# Altium schematic symbol library dds.SchLib: 2 symbols
Pins are listed as number, name and electrical type; pins without a type are passive.

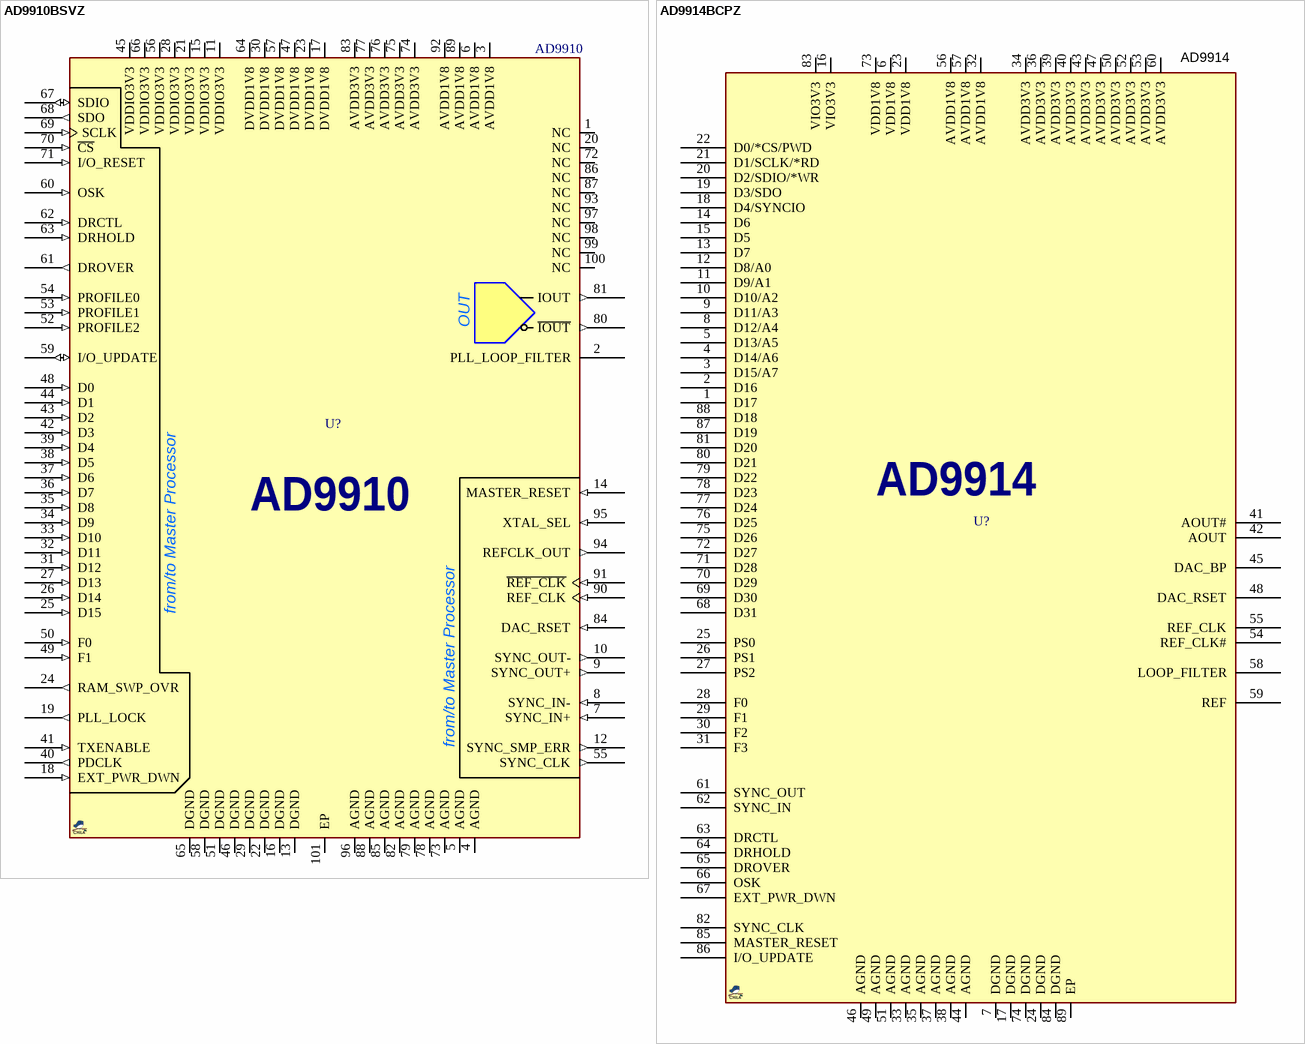
[diagram p0: symbols AD9910BSVZ to AD9914BCPZ]

## AD9910BSVZ
designator U?, comment AD9910
DDS, 1GSPS, 14-Bit, 3.3VCMOS, 32Bit_Parallel/Serial; MANF_P#: AD9910BSVZ; MANF: Analog Devices; PARAM: 1GSPS, 14-Bit, 3.3VCMOS, 32Bit_Parallel/Serial; VALUE: AD9910
footprint QFG50_100T (LQFP100P, 14.0x14.0mm, Pitch 0.5mm)
pins: 1 NC "Not Connected. Allow device pins to float.", 2 PLL_LOOP_FILTER "PLL Loop Filter Compensation Pin. See the External PLL Loop Filter Components section for details", 3 AVDD1V8 (power) "Analog Core VDD, 1.8 V Analog Supplies.", 4 AGND (power) "Analog Ground.", 5 AGND (power) "Analog Ground.", 6 AVDD1V8 (power) "Analog Core VDD, 1.8 V Analog Supplies.", 7 SYNC_IN+ (in) "Synchronization Signal (LVDS), Digital Input (Rising Edge Active). The synchronization signal from the external master to synchronize internal subclocks. [see datasheet]", 8 SYNC_IN- (in) "Synchronization Signal (LVDS), Digital Input. The synchronization signal from the external master to synchronize internal subclocks. [see datasheet]", 9 SYNC_OUT+ (out) "Synchronization Signal (LVDS), Digital Output (Rising Edge Active). The synchronization signal from the internal device subclocks to synchronize external slave devices. [see datasheet]", 10 SYNC_OUT- (out) "Synchronization Signal (LVDS), Digital Output. The synchronization signal from the internal device subclocks to synchronize external slave devices. [see datasheet]", 11 VDDIO3V3 (power) "Digital Input/Output VDD, 3.3 V Digital Supplies.", 12 SYNC_SMP_ERR (out) "Synchronization Sample Error, Digital Output (Active High). Sync sample error: a high on this pin indicates that the AD9910 did not receive a valid sync signal on SYNC_IN+/SYNC_IN-.", 13 DGND (power) "Digital Ground.", 14 MASTER_RESET (in) "Master Reset, Digital Input (Active High). Master reset: clears all memory elements and sets registers to default values.", 15 VDDIO3V3 (power) "Digital Input/Output VDD, 3.3 V Digital Supplies.", 16 DGND (power) "Digital Ground.", 17 DVDD1V8 (power) "Digital Core VDD, 1.8 V Digital Supplies.", 18 EXT_PWR_DWN (in) "External Power-Down, Digital Input (Active High). A high level on this pin initiates the currently programmed power-down mode. See the Power-Down Control section for further details. [see datasheet]", 19 PLL_LOCK (out) "Clock Multiplier PLL Lock, Digital Output (Active High). A high on this pin indicates that the Clock Multiplier PLL has acquired lock to the reference clock input.", 20 NC "Not Connected. Allow device pins to float.", 21 VDDIO3V3 (power) "Digital Input/Output VDD, 3.3 V Digital Supplies.", 22 DGND (power) "Digital Ground.", 23 DVDD1V8 (power) "Digital Core VDD, 1.8 V Digital Supplies.", 24 RAM_SWP_OVR (out) "RAM Sweep Over, Digital Output (Active High). A high on this pin indicates that the RAM sweep profile has completed.", 25 D15 (in) "Parallel Input Bus (Active High).", 26 D14 (in) "Parallel Input Bus (Active High).", 27 D13 (in) "Parallel Input Bus (Active High).", 28 VDDIO3V3 (power) "Digital Input/Output VDD, 3.3 V Digital Supplies.", 29 DGND (power) "Digital Ground.", 30 DVDD1V8 (power) "Digital Core VDD, 1.8 V Digital Supplies.", 31 D12 (in) "Parallel Input Bus (Active High).", 32 D11 (in) "Parallel Input Bus (Active High).", 33 D10 (in) "Parallel Input Bus (Active High).", 34 D9 (in) "Parallel Input Bus (Active High).", 35 D8 (in) "Parallel Input Bus (Active High).", 36 D7 (in) "Parallel Input Bus (Active High).", 37 D6 (in) "Parallel Input Bus (Active High).", 38 D5 (in) "Parallel Input Bus (Active High).", 39 D4 (in) "Parallel Input Bus (Active High).", 40 PDCLK (out) "Parallel Data Clock. This is the digital output (clock). The parallel data clock provides a timing signal for aligning data at the parallel inputs.", 41 TXENABLE (in) "Transmit Enable. Digital input (active high). In burst mode communications, a high on this pin indicates new data for transmission. In continuous mode, this pin remains high.", 42 D3 (in) "Parallel Input Bus (Active High).", 43 D2 (in) "Parallel Input Bus (Active High).", 44 D1 (in) "Parallel Input Bus (Active High).", 45 VDDIO3V3 (power) "Digital Input/Output VDD, 3.3 V Digital Supplies.", 46 DGND (power) "Digital Ground.", 47 DVDD1V8 (power) "Digital Core VDD, 1.8 V Digital Supplies.", 48 D0 (in) "Parallel Input Bus (Active High).", 49 F1 (in) "Modulation Format Pin. Digital input to determine the modulation format.", 50 F0 (in) "Modulation Format Pin. Digital input to determine the modulation format.", 51 DGND (power) "Digital Ground.", 52 PROFILE2 (in) "Profile Select Pins. Digital inputs (active high). Use these pins to select one of eight phase/frequency profiles for the DDS. Changing the state of one of these pins transfers the current contents of all I/O buffers to the corresponding registers. [see d", 53 PROFILE1 (in) "Profile Select Pins. Digital inputs (active high). Use these pins to select one of eight phase/frequency profiles for the DDS. Changing the state of one of these pins transfers the current contents of all I/O buffers to the corresponding registers. [see d", 54 PROFILE0 (in) "Profile Select Pins. Digital inputs (active high). Use these pins to select one of eight phase/frequency profiles for the DDS. Changing the state of one of these pins transfers the current contents of all I/O buffers to the corresponding registers. [see d", 55 SYNC_CLK (out) "Output Clock Divided-By-Four. A digital output (clock). Many of the digital inputs on the chip, such as I/O_UPDATE and PROFILE[2:0], need to be set up on the rising edge of this signal.", 56 VDDIO3V3 (power) "Digital Input/Output VDD, 3.3 V Digital Supplies.", 57 DVDD1V8 (power) "Digital Core VDD, 1.8 V Digital Supplies.", 58 DGND (power) "Digital Ground.", 59 I/O_UPDATE (io) "Input/Output Update. Digital input (active high). A high on this pin transfers the contents of the I/O buffers to the corresponding internal registers.", 60 OSK (in) "Output Shift Keying. Digital input (active high). When the OSK features are placed in either manual or automatic mode, this pin controls the OSK function. [see datasheet]", 61 DROVER (out) "Digital Ramp Over. Digital output (active high). This pin switches to Logic 1 whenever the digital ramp generator reaches its programmed upper or lower limit.", 62 DRCTL (in) "Digital Ramp Control. Digital input (active high). This pin controls the slope polarity of the digital ramp generator. See the Digital Ramp Generator (DRG) section for more details. [see datasheet]", 63 DRHOLD (in) "Digital Ramp Hold. Digital input (active high). This pin stalls the digital ramp generator in its present state. See the Digital Ramp Generator (DRG) section for more details. [see datasheet]", 64 DVDD1V8 (power) "Digital Core VDD, 1.8 V Digital Supplies.", 65 DGND (power) "Digital Ground.", 66 VDDIO3V3 (power) "Digital Input/Output VDD, 3.3 V Digital Supplies.", 67 SDIO (io) "Serial Data Input/Output. Digital input/output (active high). This pin can be either unidirectional or bidirectional (default),depending on the configuration settings. [see datasheet]", 68 SDO (out) "Serial Data Output. Digital output (active high). This pin is only active in unidirectional serial data mode. In this mode, it functions as the output. [see datasheet]", 69 SCLK (in) "Serial Data Clock. Digital clock (rising edge on write, falling edge on read). This pin provides the serial data clock for the control data path. [see datasheet]", 70 ~{CS} (in) "Chip Select. Digital input (active low). This pin allows the AD9910 to operate on a common serial bus for the control data path. Bringing this pin low enables the AD9910 to detect serial clock rising/falling edges. [see datasheet]", 71 I/O_RESET (in) "Input/Output Reset. Digital input (active high). This pin can be used when a serial I/O communication cycle fails (see the I/O_RESET—Input/Output Reset section for details). [see datasheet]", 72 NC "Not Connected. Allow device pins to float.", 73 AGND (power) "Analog Ground.", 74 AVDD3V3 (power) "Analog DAC VDD, 3.3 V Analog Supplies.", 75 AVDD3V3 (power) "Analog DAC VDD, 3.3 V Analog Supplies.", 76 AVDD3V3 (power) "Analog DAC VDD, 3.3 V Analog Supplies.", 77 AVDD3V3 (power) "Analog DAC VDD, 3.3 V Analog Supplies.", 78 AGND (power) "Analog Ground.", 79 AGND (power) "Analog Ground.", 80 ~{IOUT} (out) "Open-Drain DAC Complementary Output Source. Analog output (current mode). Connect through a 50  ohm resistor to AGND.", 81 IOUT (out) "Open-Drain DAC Output Source. Analog output (current mode). Connect through a 50  ohm resistor to AGND.", 82 AGND (power) "Analog Ground.", 83 AVDD3V3 (power) "Analog DAC VDD, 3.3 V Analog Supplies.", 84 DAC_RSET (in) "Analog Reference Pin. This pin programs the DAC output full-scale reference current. Attach a 10 k ohm resistor to AGND.", 85 AGND (power) "Analog Ground.", 86 NC "Not Connected. Allow device pins to float.", 87 NC "Not Connected. Allow device pins to float.", 88 AGND (power) "Analog Ground.", 89 AVDD1V8 (power) "Analog Core VDD, 1.8 V Analog Supplies.", 90 REF_CLK (in) "Reference Clock Input. Analog input. When the internal oscillator is engaged, this pin can be driven by either an external oscillator or connected to a crystal. [see datasheet]", 91 ~{REF_CLK} (in) "Reference Clock Input. Analog input. See the REF_CLK/ Overview section for more details.", 92 AVDD1V8 (power) "Analog Core VDD, 1.8 V Analog Supplies.", 93 NC "Not Connected. Allow device pins to float.", 94 REFCLK_OUT (out) "Crystal Output. Analog output. See the REF_CLK/ Overview section for more details.", 95 XTAL_SEL (in) "Crystal Select (1.8 V Logic). Analog input (active high). Driving the XTAL_SEL pin high,  the AVDD (1.8V) pin enables the internal oscillator to be used with a crystal resonator. [see datasheet]", 96 AGND (power) "Analog Ground.", 97 NC "Not Connected. Allow device pins to float.", 98 NC "Not Connected. Allow device pins to float.", 99 NC "Not Connected. Allow device pins to float.", 100 NC "Not Connected. Allow device pins to float.", 101 EP (power) "The EPAD should be soldered to ground."
text: OUT; from/to Master Processor

## AD9914BCPZ
designator U?, comment AD9914
DDS, 3.5GSPS, 12-Bit, Parallel 32-BIT, Serial; MANF_P#: AD9914BCPZ; MANF: Analog Devices; PARAM: 3.5GSPS, 12-Bit, Parallel 32-BIT, Serial; Value: AD9914
footprint QFN50_88T (CP-88, 12X12mm, 0.5mm pitch)
pins: 1 D17, 2 D16, 3 D15/A7, 4 D14/A6, 5 D13/A5, 6 VDD1V8, 7 DGND, 8 D12/A4, 9 D11/A3, 10 D10/A2, 11 D9/A1, 12 D8/A0, 13 D7, 14 D6, 15 D5, 16 VIO3V3, 17 DGND, 18 D4/SYNCIO, 19 D3/SDO, 20 D2/SDIO/*WR, 21 D1/SCLK/*RD, 22 D0/*CS/PWD, 23 VDD1V8, 24 DGND, 25 PS0, 26 PS1, 27 PS2, 28 F0, 29 F1, 30 F2, 31 F3, 32 AVDD1V8, 33 AGND, 34 AVDD3V3, 35 AGND, 36 AVDD3V3, 37 AGND, 38 AGND, 39 AVDD3V3, 40 AVDD3V3, 41 AOUT#, 42 AOUT, 43 AVDD3V3, 44 AGND, 45 DAC_BP, 46 AGND, 47 AVDD3V3, 48 DAC_RSET, 49 AGND, 50 AVDD3V3, 51 AGND, 52 AVDD3V3, 53 AVDD3V3, 54 REF_CLK#, 55 REF_CLK, 56 AVDD1V8, 57 AVDD1V8, 58 LOOP_FILTER, 59 REF, 60 AVDD3V3, 61 SYNC_OUT, 62 SYNC_IN, 63 DRCTL, 64 DRHOLD, 65 DROVER, 66 OSK, 67 EXT_PWR_DWN, 68 D31, 69 D30, 70 D29, 71 D28, 72 D27, 73 VDD1V8, 74 DGND, 75 D26, 76 D25, 77 D24, 78 D23, 79 D22, 80 D21, 81 D20, 82 SYNC_CLK, 83 VIO3V3, 84 DGND, 85 MASTER_RESET, 86 I/O_UPDATE, 87 D19, 88 D18, 89 EP